# Altium schematic symbol library 2.54_Connector_x3_female.SchLib: 1 symbol
Pins are listed as number, name and electrical type; pins without a type are passive.

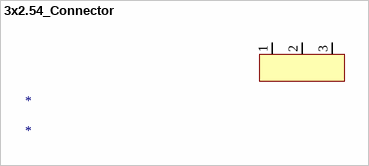
[diagram p0: symbol 3x2.54_Connector]

## 3x2.54_Connector
designator *
footprint 2.54_Connector_x3_female
pins: 1, 2, 3